# EAGLE library part MP2307 (library Bits_library_eagle 9x)
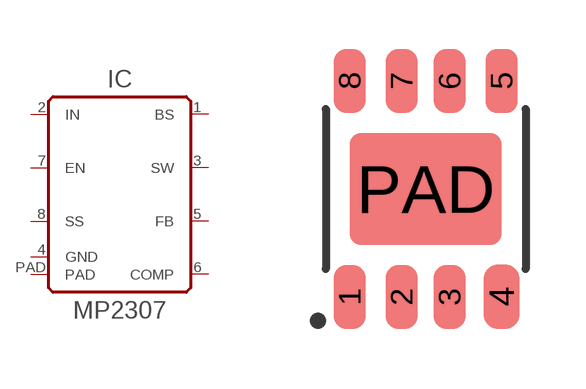
[diagram p79: symbol with the pads of SOIC8N_EXPOSEDPAD; footprint SOIC8N_EXPOSEDPAD]

Designator prefix IC

## MP2307  [SOIC8N_EXPOSEDPAD]
1  BS  pwr
2  IN  pwr
3  SW  pwr
4  GND  pwr
5  FB  pwr
6  COMP  pwr
7  EN  in
8  SS  pwr
PAD  PAD  pwr

## Footprint SOIC8N_EXPOSEDPAD (pad centres in mm)
smd 0.8 x 1.6: 1 -1.9,-2.7; 2 -0.6,-2.7; 3 0.6,-2.7; 5 1.9,2.7; 6 0.6,2.7; 7 -0.6,2.7; 8 -1.9,2.7
smd 0.9 x 1.6: 4 1.9,-2.7
smd 3.8 x 2.8: PAD 0,0